# Altium footprint library CommonPackages.PcbLib: 31 footprints (part 2 of 2)
Each footprint in its own frame and in the unit in brackets; x right, y up, seen from the top. Pads: shape width x height; smd on the part's side, far side on the other; paste and mask are expansions set on the pad; w line width, h text height; cw(c..) or ccw(c..) is an arc to the next point about the centre after c.
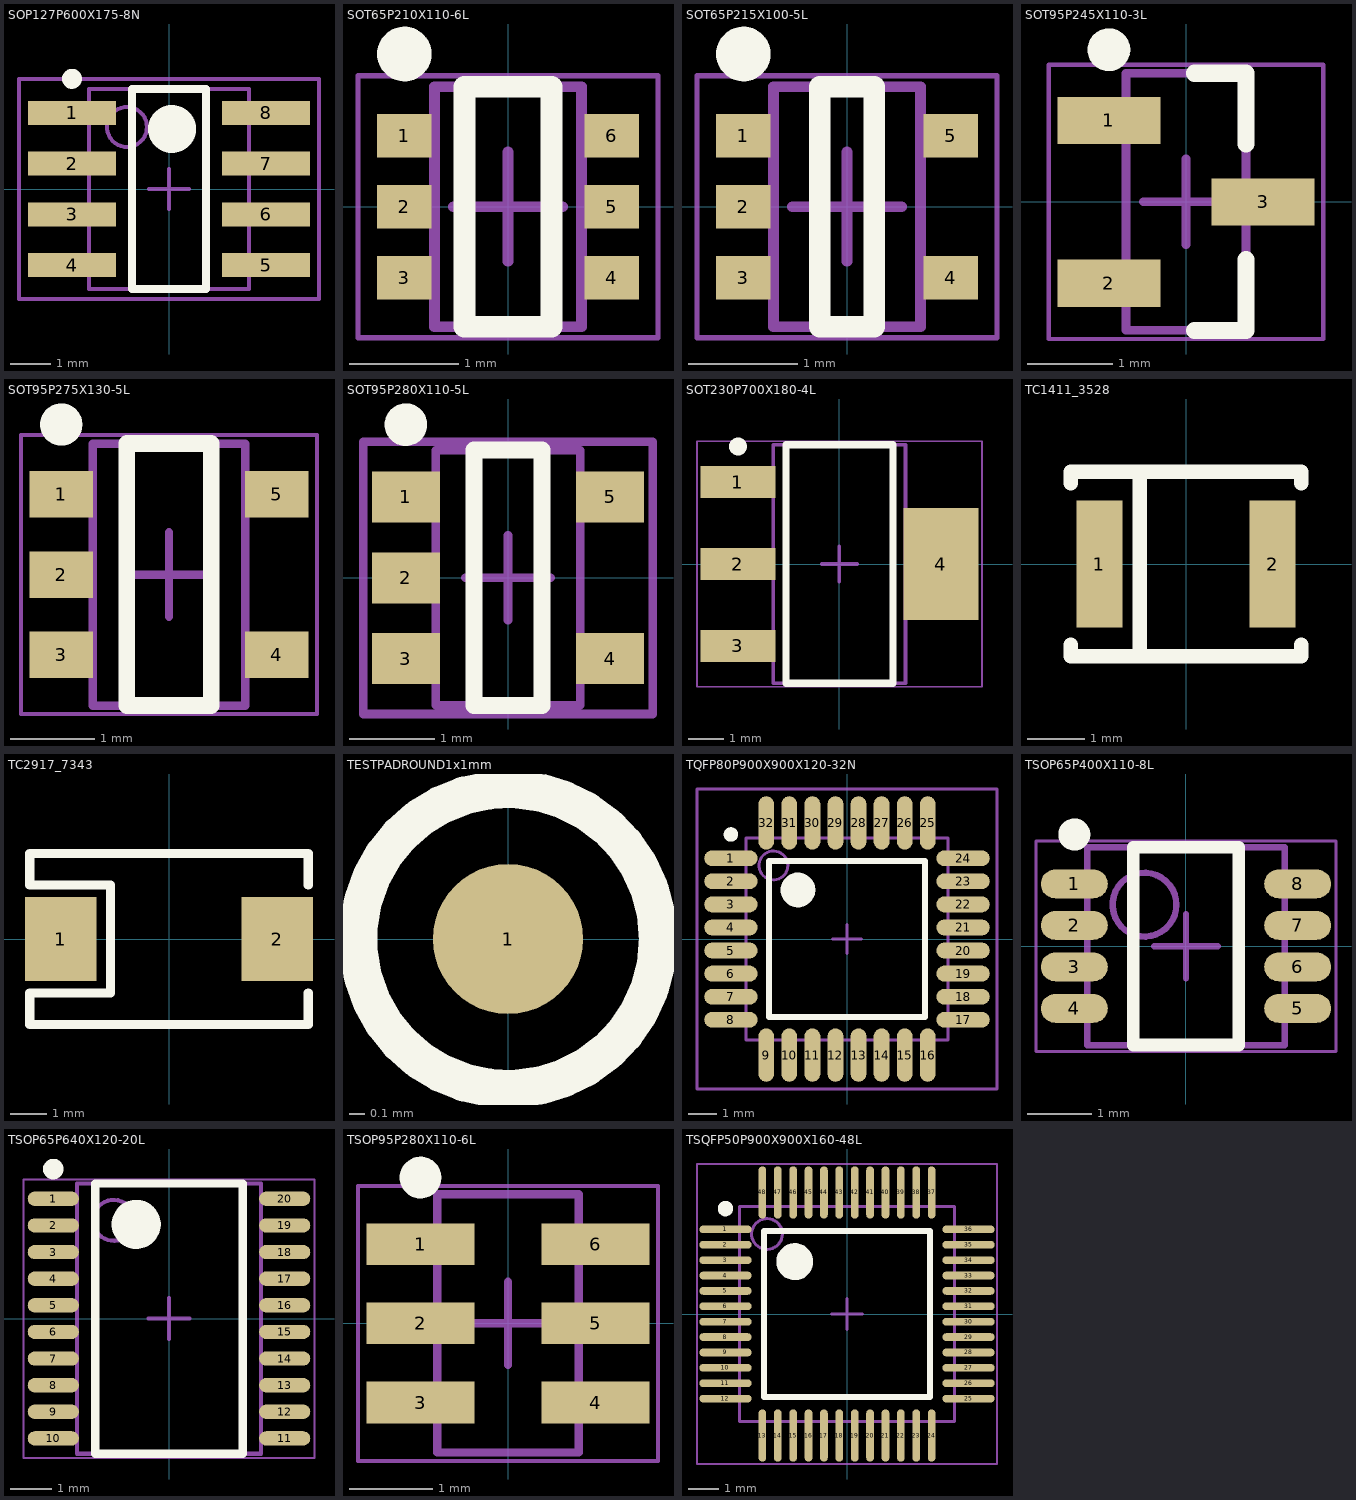
[diagram p1: the footprints below, top view; thin cyan lines are the x and y axes]

## SOP127P600X175-8N [mm] "SOP, 8-Leads, Body 5,0x4,0mm (max), Pitch 1,27mm, IPC Medium Density"
height 1.75
pads (8):
  rect 2.2x0.6 smd: 1(-2.425,1.905) 2(-2.425,0.635) 3(-2.425,-0.635) 4(-2.425,-1.905) 5(2.425,-1.905) 6(2.425,-0.635) 7(2.425,0.635) 8(2.425,1.905)
Top Overlay:
  circle w0.6: c0.075,1.5 r0.3
  circle w0.25: c-2.425,2.755 r0.125
  lines w0.2: -0.925,-2.5 0.925,-2.5 0.925,2.5 -0.925,2.5 -0.925,-2.5
Mechanical 13:
  circle w0.1: c-1.05,1.55 r0.5
  lines w0.1: -2,-2.5 2,-2.5 2,2.5 -2,2.5 -2,-2.5
Mechanical 15:
  lines w0.1: -0.5,0 0.5,0 ; 0,-0.5 0,0.5 ; -3.75,-2.75 3.75,-2.75 3.75,2.75 -3.75,2.75 -3.75,-2.75
3D body: height 1.75, standoff 0.1, extent -2,-2.5 2,2.5

## SOT65P210X110-6L [mm] "SOT23, 6-Leads, Body 2.00x2.10mm, Pitch 0.65mm, IPC High Density"
height 1.1
pads (6):
  rect 0.5x0.4 smd: 1(-0.95,0.65) 2(-0.95,0) 3(-0.95,-0.65) 4(0.95,-0.65) 5(0.95,0) 6(0.95,0.65)
Top Overlay:
  circle w0.25: c-0.95,1.4 r0.125
  lines w0.2: -0.4,-1.1 -0.4,1.1 0.4,1.1 0.4,-1.1 -0.4,-1.1
Mechanical 13:
  lines w0.1: -0.675,-1.1 0.675,-1.1 0.675,1.1 -0.675,1.1 -0.675,-1.1
Mechanical 15:
  lines w0.05: -1.375,-1.2 1.375,-1.2 1.375,1.2 -1.375,1.2 -1.375,-1.2
  lines w0.1: -0.5,0 0.5,0 ; 0,-0.5 0,0.5
3D body: height 1.1, standoff 0, extent -0.675,-1.1 0.675,1.1

## SOT65P215X100-5L [mm] "SOT23, 5-Leads, Body 2.00x2.15mm, Pitch 0.65mm, IPC High Density"
height 1
pads (5):
  rect 0.5x0.4 smd: 1(-0.95,0.65) 2(-0.95,0) 3(-0.95,-0.65) 4(0.95,-0.65) 5(0.95,0.65)
Top Overlay:
  circle w0.25: c-0.95,1.4 r0.125
  lines w0.2: -0.25,-1.1 -0.25,1.1 0.25,1.1 0.25,-1.1 -0.25,-1.1
Mechanical 13:
  lines w0.1: -0.675,-1.1 0.675,-1.1 0.675,1.1 -0.675,1.1 -0.675,-1.1
Mechanical 15:
  lines w0.05: -1.375,-1.2 1.375,-1.2 1.375,1.2 -1.375,1.2 -1.375,-1.2
  lines w0.1: -0.5,0 0.5,0 ; 0,-0.5 0,0.5
3D body: height 1, standoff 0.1, extent -0.675,-1.1 0.675,1.1

## SOT95P245X110-3L [mm] "SOT23, 3-Leads, Body 2,90x2,45mm, Pitch 0,95mm, IPC High Density"
height 1.1
pads (3):
  rect 1.2x0.55 smd: 1(-0.9,0.95) 2(-0.9,-0.95) 3(0.9,0)
Top Overlay:
  circle w0.25: c-0.9,1.775 r0.125
  lines w0.2: 0.1,-1.5 0.7,-1.5 0.7,-0.675 ; 0.1,1.5 0.7,1.5 0.7,0.675
Mechanical 13:
  lines w0.1: -0.7,-1.5 0.7,-1.5 0.7,1.5 -0.7,1.5 -0.7,-1.5
Mechanical 15:
  lines w0.05: -1.6,-1.6 1.6,-1.6 1.6,1.6 -1.6,1.6 -1.6,-1.6
  lines w0.1: -0.5,0 0.5,0 ; 0,-0.5 0,0.5
3D body: height 1.1, standoff 0.05, extent -0.7,-1.5 0.7,1.5

## SOT95P275X130-5L [mm] "SOT23, 5-Leads, Body 2.90x2.75mm, Pitch 0.95mm, IPC High Density"
height 1.3
pads (5):
  rect 0.75x0.55 smd: 1(-6.375,4.75) 2(-6.375,3.8) 3(-6.375,2.85) 4(-3.825,2.85) 5(-3.825,4.75)
Top Overlay:
  circle w0.25: c-6.375,5.575 r0.125
  lines w0.2: -5.6,2.25 -5.6,5.35 -4.6,5.35 -4.6,2.25 -5.6,2.25
Mechanical 13:
  lines w0.1: -6,2.25 -4.2,2.25 -4.2,5.35 -6,5.35 -6,2.25
Mechanical 15:
  lines w0.05: -6.85,2.15 -3.35,2.15 -3.35,5.45 -6.85,5.45 -6.85,2.15
  lines w0.1: -5.6,3.8 -4.6,3.8 ; -5.1,3.3 -5.1,4.3
3D body: height 1.3, standoff 0, extent -6,2.25 -4.2,5.35

## SOT95P280X110-5L [mm] "SOT23, 5-Leads, Body 3,0x2,8mm (max), Pitch 0,95mm, IPC High Density"
height 1.1
pads (5):
  rect 0.8x0.6 smd: 1(-1.2,0.95) 2(-1.2,0) 3(-1.2,-0.95) 4(1.2,-0.95) 5(1.2,0.95)
Top Overlay:
  circle w0.25: c-1.2,1.8 r0.125
  lines w0.2: -0.4,-1.5 0.4,-1.5 0.4,1.5 -0.4,1.5 -0.4,-1.5
Mechanical 13:
  lines w0.1: -0.85,-1.5 -0.85,1.5 0.85,1.5 0.85,-1.5 -0.85,-1.5
Mechanical 15:
  lines w0.1: -0.5,0 0.5,0 ; 0,-0.5 0,0.5 ; -1.7,-1.6 -1.7,1.6 1.7,1.6 1.7,-1.6 -1.7,-1.6
3D body: height 1.1, standoff 0.1, extent -0.85,-1.5 0.85,1.5

## SOT230P700X180-4L [mm] "SOT223, 4-Leads, Body 6.50x7.00mm (avg), Pitch 2.30mm, IPC High Density"
height 1.8
pads (4):
  rect 2.1x0.9 smd: 1(-2.85,2.3) 2(-2.85,0) 3(-2.85,-2.3)
  rect 2.1x3.15 smd: 4(2.85,0)
Top Overlay:
  circle w0.25: c-2.85,3.3 r0.125
  lines w0.2: -1.5,-3.35 1.5,-3.35 1.5,3.35 -1.5,3.35 -1.5,-3.35
Mechanical 13:
  lines w0.1: -1.855,-3.355 1.855,-3.355 1.855,3.355 -1.855,3.355 -1.855,-3.355
Mechanical 15:
  lines w0.05: -4,-3.45 4,-3.45 4,3.45 -4,3.45 -4,-3.45
  lines w0.1: -0.5,0 0.5,0 ; 0,-0.5 0,0.5
3D body: height 1.8, standoff 0.02, extent -1.855,-3.355 1.855,3.355

## TC1411_3528 [mm] "1411 (3528 Metric) Tantalum Capacitor"
height 1.9
pads (2):
  rect 0.8x2.2 smd: 1(-1.5,0) 2(1.5,0)
Top Overlay:
  lines w0.254: -2,-1.4 -2,-1.6 2,-1.6 2,-1.4 ; -2,1.4 -2,1.6 2,1.6 2,1.4 ; -0.8,-1.6 -0.8,1.6
3D body: height 1.9, standoff 0.1, extent -1.75,-1.4 1.75,1.4

## TC2917_7343 [mm] "2917 (7343 Metric) Tantalum Capacitor"
height 4
pads (2):
  rect 1.99x2.33 smd: 1(-3.01,0) 2(3.01,0)
Top Overlay:
  lines w0.254: 3.875,-1.5 3.875,-2.375 -3.875,-2.375 -3.875,-1.5 -1.625,-1.5 -1.625,1.375 -1.625,1.5 -3.875,1.5 -3.875,2.375 3.875,2.375 3.875,1.5
3D body: height 4, standoff 0.1, extent -3.65,-2.15 3.625,2.15

## TESTPADROUND1x1mm [mm]
pads (1):
  round 1 smd paste-1: 1(0,0)
Top Overlay:
  circle w0.254: c0,0 r1

## TQFP80P900X900X120-32N [mm] "TQFP, 32-Leads, Body 9,0x9,0mm (max), Pitch 0,80mm, IPC Medium Density"
height 1.2
pads (32):
  oval 1.85x0.55 smd: 1(-4.025,2.8) 2(-4.025,2) 3(-4.025,1.2) 4(-4.025,0.4) 5(-4.025,-0.4) 6(-4.025,-1.2) 7(-4.025,-2) 8(-4.025,-2.8) 17(4.025,-2.8) 18(4.025,-2) 19(4.025,-1.2) 20(4.025,-0.4) 21(4.025,0.4) 22(4.025,1.2) 23(4.025,2) 24(4.025,2.8)
  oval 0.55x1.85 smd: 9(-2.8,-4.025) 10(-2,-4.025) 11(-1.2,-4.025) 12(-0.4,-4.025) 13(0.4,-4.025) 14(1.2,-4.025) 15(2,-4.025) 16(2.8,-4.025) 25(2.8,4.025) 26(2,4.025) 27(1.2,4.025) 28(0.4,4.025) 29(-0.4,4.025) 30(-1.2,4.025) 31(-2,4.025) 32(-2.8,4.025)
Top Overlay:
  circle w0.25: c-4.025,3.625 r0.125
  circle w0.6: c-1.7,1.7 r0.3
  lines w0.2: -2.7,-2.7 -2.7,2.7 2.7,2.7 2.7,-2.7 -2.7,-2.7
Mechanical 13:
  circle w0.1: c-2.55,2.55 r0.5
  lines w0.1: -3.5,-3.5 -3.5,3.5 3.5,3.5 3.5,-3.5 -3.5,-3.5
Mechanical 15:
  lines w0.1: -0.5,0 0.5,0 ; 0,-0.5 0,0.5 ; -5.2,-5.2 -5.2,5.2 5.2,5.2 5.2,-5.2 -5.2,-5.2
3D body: height 1.2, standoff 0.05, extent -3.5,-3.5 3.5,3.5

## TSOP65P400X110-8L [mm] "TSOP, 8-Leads, Body 3,00x3,00mm, Pitch 0,65mm, IPC High Density"
height 1.1
pads (8):
  oval 1.05x0.45 smd: 1(-1.75,0.975) 2(-1.75,0.325) 3(-1.75,-0.325) 4(-1.75,-0.975) 5(1.75,-0.975) 6(1.75,-0.325) 7(1.75,0.325) 8(1.75,0.975)
Top Overlay:
  circle w0.25: c-1.75,1.75 r0.125
  lines w0.2: -0.825,-1.55 -0.825,1.55 0.825,1.55 0.825,-1.55 -0.825,-1.55
Mechanical 13:
  circle w0.1: c-0.65,0.65 r0.5
  lines w0.1: -1.55,-1.55 -1.55,1.55 1.55,1.55 1.55,-1.55 -1.55,-1.55
Mechanical 15:
  lines w0.05: -2.35,-1.65 -2.35,1.65 2.35,1.65 2.35,-1.65 -2.35,-1.65
  lines w0.1: -0.5,0 0.5,0 ; 0,-0.5 0,0.5
3D body: height 1.1, standoff 0.15, extent -1.55,-1.55 1.55,1.55

## TSOP65P640X120-20L [mm] "TSOP, 20-Leads, Body 6,50x4,40mm, Pitch 0,65mm, IPC High Density"
height 1.2
pads (20):
  oval 1.25x0.35 smd: 1(-2.825,2.925) 2(-2.825,2.275) 3(-2.825,1.625) 4(-2.825,0.975) 5(-2.825,0.325) 6(-2.825,-0.325) 7(-2.825,-0.975) 8(-2.825,-1.625) 9(-2.825,-2.275) 10(-2.825,-2.925) 11(2.825,-2.925) 12(2.825,-2.275) 13(2.825,-1.625) 14(2.825,-0.975) 15(2.825,-0.325) 16(2.825,0.325) 17(2.825,0.975) 18(2.825,1.625) 19(2.825,2.275) 20(2.825,2.925)
Top Overlay:
  circle w0.25: c-2.825,3.65 r0.125
  circle w0.6: c-0.8,2.3 r0.3
  lines w0.2: -1.8,-3.3 -1.8,3.3 1.8,3.3 1.8,-3.3 -1.8,-3.3
Mechanical 13:
  circle w0.1: c-1.35,2.4 r0.5
  lines w0.1: -2.25,-3.3 -2.25,3.3 2.25,3.3 2.25,-3.3 -2.25,-3.3
Mechanical 15:
  lines w0.05: -3.55,-3.4 -3.55,3.4 3.55,3.4 3.55,-3.4 -3.55,-3.4
  lines w0.1: -0.5,0 0.5,0 ; 0,-0.5 0,0.5
3D body: height 1.2, standoff 0.15, extent -2.25,-3.3 2.25,3.3

## TSOP95P280X110-6L [mm] "TSOP, 6-Leads, Body 2.90x1.50mm, Pitch 0.95mm, IPC High Density"
height 1.1
pads (6):
  rect 1.3x0.5 smd: 1(-1.05,0.95) 2(-1.05,0) 3(-1.05,-0.95) 4(1.05,-0.95) 5(1.05,0) 6(1.05,0.95)
Top Overlay:
  circle w0.25: c-1.05,1.75 r0.125
Mechanical 13:
  lines w0.1: -0.85,-1.55 -0.85,1.55 0.85,1.55 0.85,-1.55 -0.85,-1.55
Mechanical 15:
  lines w0.05: -1.8,-1.65 -1.8,1.65 1.8,1.65 1.8,-1.65 -1.8,-1.65
  lines w0.1: -0.5,0 0.5,0 ; 0,-0.5 0,0.5
3D body: height 1.1, standoff 0.1, extent -0.85,-1.55 0.85,1.55

## TSQFP50P900X900X160-48L [mm] "TSQFP, 48-Leads, Body 7.00x7.00mm, Pitch 0.50mm, IPC High Density"
height 1.6
pads (48):
  oval 1.7x0.25 smd: 1(-3.95,2.75) 2(-3.95,2.25) 3(-3.95,1.75) 4(-3.95,1.25) 5(-3.95,0.75) 6(-3.95,0.25) 7(-3.95,-0.25) 8(-3.95,-0.75) 9(-3.95,-1.25) 10(-3.95,-1.75) 11(-3.95,-2.25) 12(-3.95,-2.75) 25(3.95,-2.75) 26(3.95,-2.25) 27(3.95,-1.75) 28(3.95,-1.25) 29(3.95,-0.75) 30(3.95,-0.25) 31(3.95,0.25) 32(3.95,0.75) 33(3.95,1.25) 34(3.95,1.75) 35(3.95,2.25) 36(3.95,2.75)
  oval 0.25x1.7 smd: 13(-2.75,-3.95) 14(-2.25,-3.95) 15(-1.75,-3.95) 16(-1.25,-3.95) 17(-0.75,-3.95) 18(-0.25,-3.95) 19(0.25,-3.95) 20(0.75,-3.95) 21(1.25,-3.95) 22(1.75,-3.95) 23(2.25,-3.95) 24(2.75,-3.95) 37(2.75,3.95) 38(2.25,3.95) 39(1.75,3.95) 40(1.25,3.95) 41(0.75,3.95) 42(0.25,3.95) 43(-0.25,3.95) 44(-0.75,3.95) 45(-1.25,3.95) 46(-1.75,3.95) 47(-2.25,3.95) 48(-2.75,3.95)
Top Overlay:
  circle w0.6: c-1.7,1.7 r0.3
  circle w0.25: c-3.95,3.425 r0.125
  lines w0.2: -2.7,-2.7 2.7,-2.7 2.7,2.7 -2.7,2.7 -2.7,-2.7
Mechanical 13:
  circle w0.1: c-2.6,2.6 r0.5
  lines w0.1: -3.5,-3.5 3.5,-3.5 3.5,3.5 -3.5,3.5 -3.5,-3.5
Mechanical 15:
  lines w0.05: -4.875,-4.875 4.875,-4.875 4.875,4.875 -4.875,4.875 -4.875,-4.875
  lines w0.1: -0.5,0 0.5,0 ; 0,-0.5 0,0.5
3D body: height 1.6, standoff 0.05, extent -3.5,-3.5 3.5,3.5